# Altium schematic symbol library JFD_Semi.SchLib: 21 symbols
Pins are listed as number, name and electrical type; pins without a type are passive.

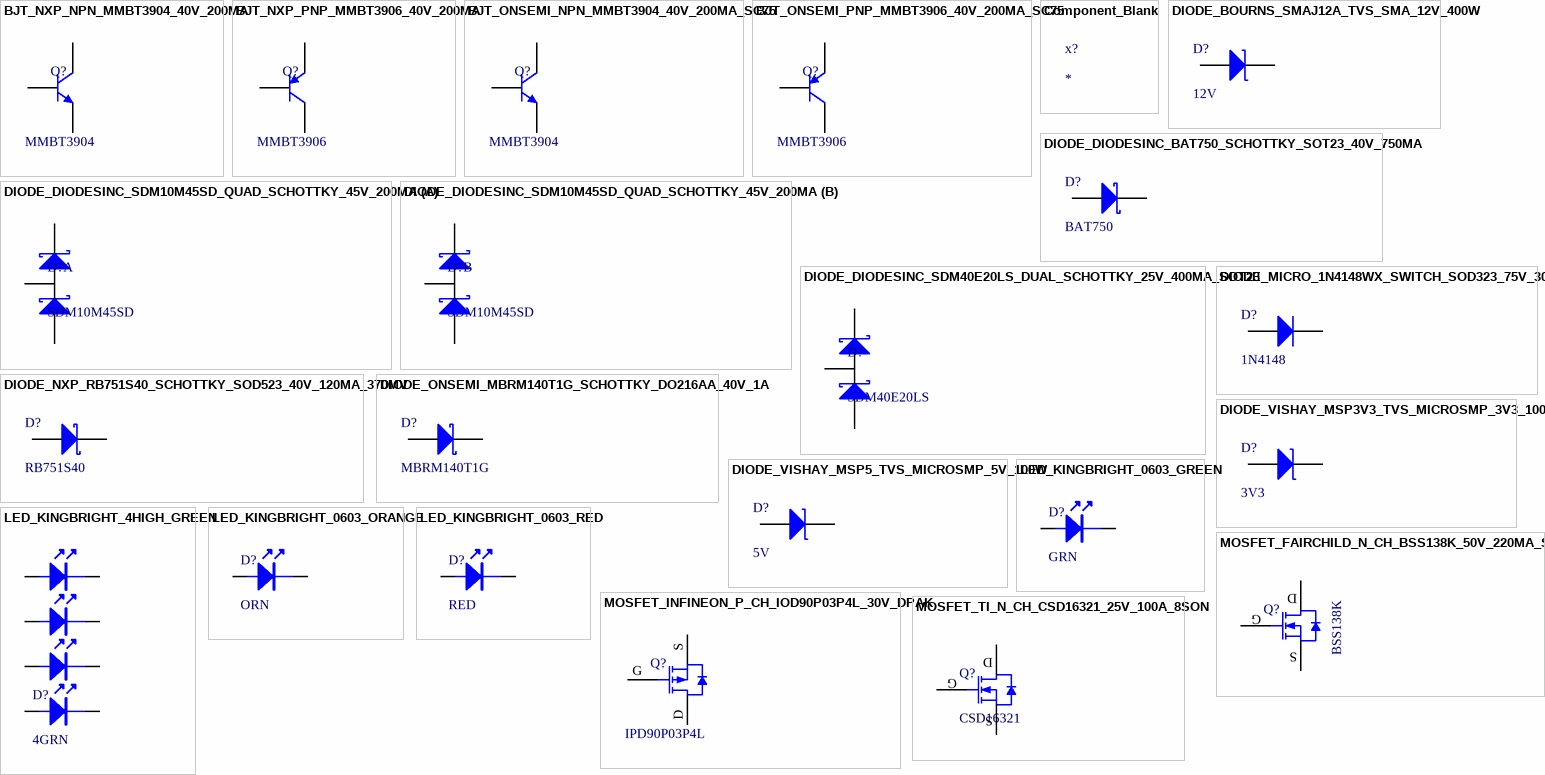
[diagram p0: symbols BJT_NXP_NPN_MMBT3904_40V_200MA to MOSFET_TI_N_CH_CSD16321_25V_100A_8SON]

## BJT_NXP_NPN_MMBT3904_40V_200MA
designator Q?, comment MMBT3904
TRANS NPN 40V 200MA SOT23; MfgPartNumber: MMBT3904,215; Mfg: NXP Semiconductors; Digikey: 568-4510-1-ND; Value: MMBT3904
footprint SOT23-3
pins: 1 B, 2 E, 3 C

## BJT_NXP_PNP_MMBT3906_40V_200MA
designator Q?, comment MMBT3906
TRANS PNP 40V 200MA SOT23; MfgPartNumber: MMBT3906,215; Mfg: NXP Semiconductors; Digikey: 568-4511-1-ND; Value: MMBT3906
footprint SOT23-3
pins: 1 B, 2 E, 3 C

## BJT_ONSEMI_NPN_MMBT3904_40V_200MA_SC75
designator Q?, comment MMBT3904
TRANS GP SS NPN 40V SOT416; MfgPartNumber: MMBT3904TT1G; Mfg: ON Semiconductor; Digikey: MMBT3904TT1GOSCT-ND; Value: MMBT3904
footprint SC-75/SOT-416
pins: 1 B, 2 E, 3 C

## BJT_ONSEMI_PNP_MMBT3906_40V_200MA_SC75
designator Q?, comment MMBT3906
TRANS PNP GP 40V 200MA SC75-3; MfgPartNumber: MMBT3906TT1G; Mfg: ON Semiconductor; Digikey: MMBT3906TT1GOSCT-ND; Value: MMBT3906
footprint SC-75/SOT-416
pins: 1 B, 2 E, 3 C

## Component_Blank
designator x?
Mfg: *; MfgPartNumber: *; Value: *; Digikey: *

## DIODE_BOURNS_SMAJ12A_TVS_SMA_12V_400W
designator D?, comment value 12V  (hidden comment: SMA)
DIODE TVS 12V 400W UNI 5% SMD; MfgPartNumber: SMAJ12A; Mfg: Bourns Inc.; Digikey: SMAJ12ABCT-ND
footprint SMA
pins: A, K

## DIODE_DIODESINC_BAT750_SCHOTTKY_SOT23_40V_750MA
designator D?, comment BAT750
DIODE SCHOTTKY 40V 750MA SOT23-3; MfgPartNumber: BAT750TA; Mfg: Diodes/Zetex; Digikey: BAT750CT-ND; Value: BAT750
footprint SOT23-3
pins: 1 A, 3 K

## DIODE_DIODESINC_SDM10M45SD_QUAD_SCHOTTKY_45V_200MA
designator D?, comment SDM10M45SD
DIODE SCHOTTKY ARRAY 45V SOT26; MfgPartNumber: SDM10M45SD-7-F; Mfg: Diodes Inc; Digikey: SDM10M45SD-FDICT-ND; Value: SDM10M45SD
footprint SOT23-6
part A pins: 1 A, 2 K, 6 M
part B pins: 3 M, 4 A, 5 K

## DIODE_DIODESINC_SDM40E20LS_DUAL_SCHOTTKY_25V_400MA_SOT23
designator D?, comment SDM40E20LS
DIODE SCHOTTKY 20V 300MW SOT23-3; MfgPartNumber: SDM40E20LS-7-F; Digikey: SDM40E20LS-FDICT-ND; Value: SDM40E20LS
footprint SOT23-3
pins: 1 A, 2 K, 3 M

## DIODE_MICRO_1N4148WX_SWITCH_SOD323_75V_300MA
designator D?, comment 1N4148
DIODE SWITCH 75V 300MA SOD323; MfgPartNumber: 1N4148WX-TP; Mfg: Micro Commercial Co; Digikey: 1N4148WXTPMSCT-ND; Value: 1N4148
footprint SOD-323
pins: 1, 2

## DIODE_NXP_RB751S40_SCHOTTKY_SOD523_40V_120MA_370MV
designator D?, comment RB751S40
DIODE SCHOTTKY 40V 120MA SOD-523; MfgPartNumber: RB751S40,115; Mfg: NXP Semiconductors; Digikey: 568-8118-1-ND; Value: RB751S40
footprint SOD-523
pins: A, K

## DIODE_ONSEMI_MBRM140T1G_SCHOTTKY_DO216AA_40V_1A
designator D?, comment MBRM140T1G
DIODE SCHOTTKY 40V 1A POWERMITE; Mfg: ON Semiconductor; MfgPartNumber: MBRM140T1G; Digikey: MBRM140T1GOSCT-ND; Value: MBRM140T1G
footprint DO-216AA_POWERMITE
footprint DO-216AA_POWERMITE
pins: A, K

## DIODE_VISHAY_MSP3V3_TVS_MICROSMP_3V3_100W
designator D?, comment 3V3
TVS UNIDIR 100W 3.3V MICROSMP; MfgPartNumber: MSP3V3-M3/89A; Mfg: Vishay/General Semiconductor; Digikey: MSP3V3-M3/89AGICT-ND; Value: 3V3
footprint Model Name (Footprint not found)
footprint Micro-SMP
pins: A, K

## DIODE_VISHAY_MSP5_TVS_MICROSMP_5V_100W
designator D?, comment 5V
TVS UNIDIR 100W 5.0V MICROSMP; MfgPartNumber: MSP5.0A-M3/89A; Mfg: Vishay/General Semiconductor; Digikey: MSP5.0A-M3/89AGICT-ND; Value: 5V
footprint Micro-SMP
pins: A, K

## LED_KINGBRIGHT_4HIGH_GREEN
designator D?, comment 4GRN
LED IND 2X3MM QUAD RA GRN DIFF; MfgPartNumber: WP914CK/4GDT; Mfg: Kingbright Corp; Digikey: 754-1286-ND; Value: 4GRN
footprint KINGBRIGHT_4HIGH_LED
pins: A1, A2, A3, A4, C1, C2, C3, C4

## LED_KINGBRIGHT_0603_GREEN
designator D?, comment GRN
LED 1.6X0.8MM 568NM GRN CLR SMD; MfgPartNumber: APT1608SGC; Mfg: Kingbright Corp; Digikey: 754-1121-1-ND; Value: GRN
footprint KINGBRIGHT_LED_0603
pins: ANODE, CATHODE

## LED_KINGBRIGHT_0603_ORANGE
designator D?, comment ORN
LED 1.6X0.8MM 601NM ORN CLR SMD; MfgPartNumber: APT1608SECK; Mfg: Kingbright Corp; Digikey: 754-1120-1-ND; Value: ORN
footprint KINGBRIGHT_LED_0603
pins: ANODE, CATHODE

## LED_KINGBRIGHT_0603_RED
designator D?, comment RED
LED 1.6X0.8MM 640NM RED CLR SMD; MfgPartNumber: APT1608SRCPRV; Mfg: Kingbright Corp; Digikey: 754-1122-1-ND; Value: RED
footprint KINGBRIGHT_LED_0603
pins: ANODE, CATHODE

## MOSFET_FAIRCHILD_N_CH_BSS138K_50V_220MA_SOT23
designator Q?, comment BSS138K
MOSFET N-CH 50V 220MA SOT-23-3; Mfg: Fairchild Semiconductor; MfgPartNumber: BSS138K; Digikey: BSS138KCT-ND; Value: BSS138K
footprint SOT23-3
pins: 1 G, 2 S, 3 D

## MOSFET_INFINEON_P_CH_IOD90P03P4L_30V_DPAK
designator Q?, comment IPD90P03P4L
MOSFET P-CH 30V 90A TO252-3; MfgPartNumber: IPD90P03P4L-04; Mfg: Infineon Technologies; Digikey: IPD90P03P4L-04INCT-ND; Value: IPD90P03P4L
footprint TO-252_DPAK
pins: D, G, S

## MOSFET_TI_N_CH_CSD16321_25V_100A_8SON
designator Q?, comment CSD16321
MOSFET N-CH 25V 100A 8-SON; MfgPartNumber: CSD16321Q5; Mfg: Texas Instruments; Digikey: 296-24517-1-ND; Value: CSD16321
footprint SON-8_TDFN-8_EP
footprint SON-8_TDFN-8_EP
pins: 1 S, 2 S, 3 S, 4 G, 5 D, 6 D, 7 D, 8 D, EP D